# EAGLE library part ENCODER_A6B2 (library RaspberryPi)
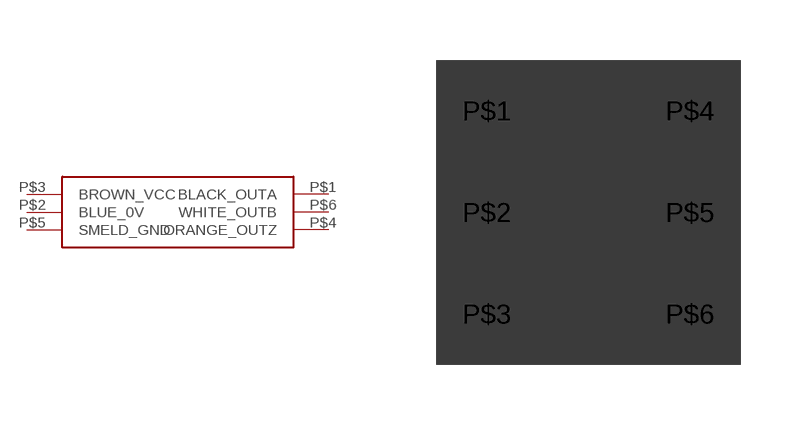
[diagram p4: symbol with the pads of ENCODER_A6B2; footprint ENCODER_A6B2]

Designator prefix -

## ENCODER_A6B2  [ENCODER_A6B2]
P$1  BLACK_OUTA
P$2  BLUE_0V
P$3  BROWN_VCC
P$4  ORANGE_OUTZ
P$5  SMELD_GND
P$6  WHITE_OUTB

## Footprint ENCODER_A6B2 (pad centres in mm)
drill 0.6 square: P$1 -2.54,2.54; P$2 -2.54,0; P$3 -2.54,-2.54; P$4 2.54,2.54; P$5 2.54,0; P$6 2.54,-2.54
hole 0.35 at -2.54,-2.54
hole 0.35 at -2.54,0
hole 0.35 at -2.54,2.54
hole 0.35 at 2.54,2.54
hole 0.35 at 2.54,0
hole 0.35 at 2.54,-2.54